# EAGLE library part MHPS2266 (library MHPS2266)
APEM - MHPS2266 - \u94A5\u5319\u5F00\u5173, DPDT, 100mA, 30VDC, PCB Source: Datasheet
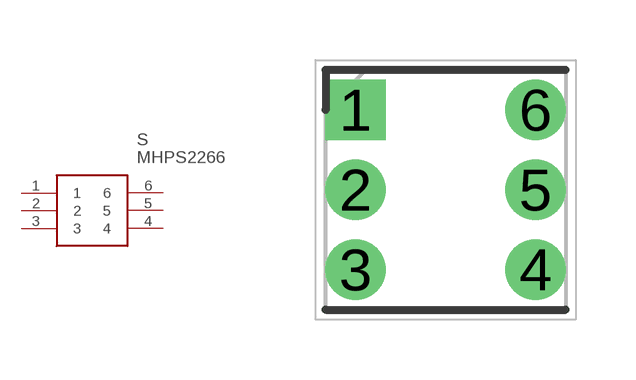
[diagram p0: symbol with the pads of DIPS450W80P200L600H1050Q6N; footprint DIPS450W80P200L600H1050Q6N]

Designator prefix S

## MHPS2266 (Description: APEM - MHPS2266 - \u94A5\u5319\u5F00\u5173, DPDT, 100mA, 30VDC, PCB; Height: 10.5mm; Manufacturer_Name: Apem; Manufacturer_Part_Number: MHPS2266; Mouser_Part_Number: 642-MHPS2266; Mouser_Price-Stock: https://www.mouser.co.uk/ProductDetail/Apem/MHPS2266?qs=%2Fs1LKTamv0yOhWIQlUyKbQ%3D%3D)  [DIPS450W80P200L600H1050Q6N]
1  1
2  2
3  3
4  4
5  5
6  6

## Footprint DIPS450W80P200L600H1050Q6N (pad centres in mm)
MHPS2266
drill 1 pad 1.5 square: 1 0,0
drill 1 pad 1.5: 2 0,-2; 3 0,-4; 4 4.5,-4; 5 4.5,-2; 6 4.5,0